# Altium schematic symbol library B5B-XH-A.SchLib: 1 symbol
Pins are listed as number, name and electrical type; pins without a type are passive.

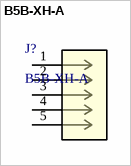
[diagram p0: symbol B5B-XH-A]

## B5B-XH-A
designator J?
Description; Manufacturer_Name: JST; Copyright: Copyright (C) 2026 Ultra Librarian. All rights reserved.; Manufacturer_Part_Number: B5B-XH-A; RefDes: RefDes; Type: Type
footprint CONN_B5B-XH-A_JST
pins: 1, 2, 3, 4, 5